# EAGLE library part IF_CLK_CDR_MAX3872AETJ (library !GPLIB_ACTIVE)
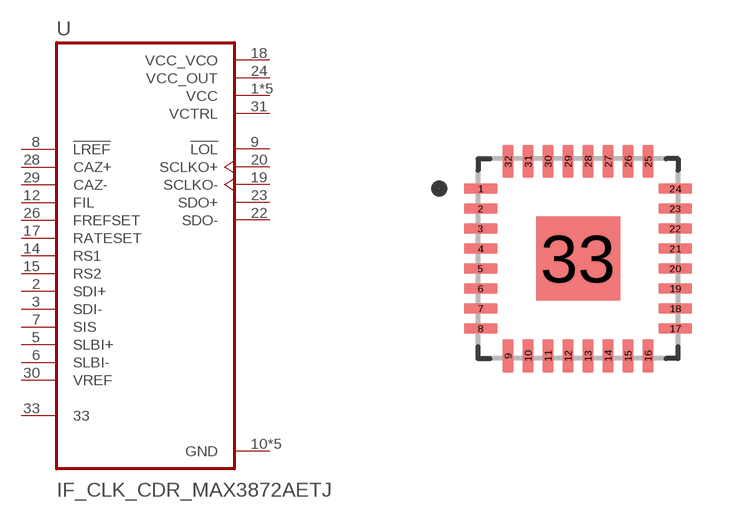
[diagram p7: symbol with the pads of QFN50P500X500X80-33N; footprint QFN50P500X500X80-33N]

Designator prefix U

## IF_CLK_CDR_MAX3872AETJ  [QFN50P500X500X80-33N]
1  VCC  pwr
2  SDI+  in
3  SDI-  in
4  VCC  pwr
5  SLBI+  in
6  SLBI-  in
7  SIS  in
8  !LREF  in
9  !LOL  out
10  GND  pwr
11  GND  pwr
12  FIL  in
13  VCC  pwr
14  RS1  in
15  RS2  in
16  GND  pwr
17  RATESET  in
18  VCC_VCO  pwr
19  SCLKO-  out
20  SCLKO+  out
21  VCC  pwr
22  SDO-  out
23  SDO+  out
24  VCC_OUT  pwr
25  GND  pwr
26  FREFSET  in
27  VCC  pwr
28  CAZ+  in
29  CAZ-  in
30  VREF  in
31  VCTRL  pwr
32  GND  pwr
33  33

## Footprint QFN50P500X500X80-33N (pad centres in mm)
smd 0.84 x 0.27: 1 -2.435,1.75; 2 -2.435,1.25; 3 -2.435,0.75; 4 -2.435,0.25; 5 -2.435,-0.25; 6 -2.435,-0.75; 7 -2.435,-1.25; 8 -2.435,-1.75; 17 2.435,-1.75; 18 2.435,-1.25; 19 2.435,-0.75; 20 2.435,-0.25; 21 2.435,0.25; 22 2.435,0.75; 23 2.435,1.25; 24 2.435,1.75
smd 0.27 x 0.84: 9 -1.75,-2.435; 10 -1.25,-2.435; 11 -0.75,-2.435; 12 -0.25,-2.435; 13 0.25,-2.435; 14 0.75,-2.435; 15 1.25,-2.435; 16 1.75,-2.435; 25 1.75,2.435; 26 1.25,2.435; 27 0.75,2.435; 28 0.25,2.435; 29 -0.25,2.435; 30 -0.75,2.435; 31 -1.25,2.435; 32 -1.75,2.435
smd 2.1 x 2.1: 33 0,0